# Altium schematic symbol library ADP1754.Schlib: 1 symbol
Pins are listed as number, name and electrical type; pins without a type are passive.

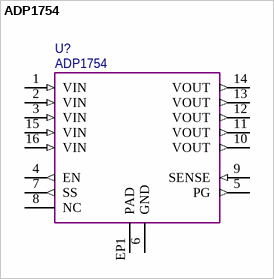
[diagram p0: symbol ADP1754]

## ADP1754
designator U?
pins: 1 VIN (in), 2 VIN (in), 3 VIN (in), 4 EN (out), 5 PG (out), 6 GND (power), 7 SS (out), 8 NC (hiz), 9 SENSE (in), 10 VOUT (out), 11 VOUT (out), 12 VOUT (out), 13 VOUT (out), 14 VOUT (out), 15 VIN (in), 16 VIN (in), EP1 PAD (power)